# Altium schematic symbol library M_CONxx.Schlib: 1 symbol
Pins are listed as number, name and electrical type; pins without a type are passive.

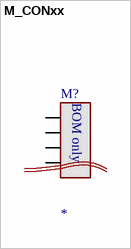
[diagram p0: symbol M_CONxx]

## M_CONxx
designator M?  (mechanical)
Mechanical Part for BOM Only
text: BOM only